# Altium schematic symbol library ca-is3741lb.SchLib: 1 symbol
Pins are listed as number, name and electrical type; pins without a type are passive.

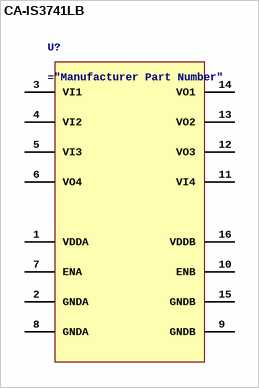
[diagram p0: symbol CA-IS3741LB]

## CA-IS3741LB
designator U?
150Mbps 150kV/us 2.5V~5.5V 2.5V~5.5V 3 3750 Low Level SSOP-16-150mil Digital Isolators ROHS
pins: 1 VDDA, 2 GNDA, 3 VI1, 4 VI2, 5 VI3, 6 VO4, 7 ENA, 8 GNDA, 9 GNDB, 10 ENB, 11 VI4, 12 VO3, 13 VO2, 14 VO1, 15 GNDB, 16 VDDB